# Altium footprint library EEG_PcbLib.PcbLib: 129 footprints (part 4 of 9)
Each footprint in its own frame and in the unit in brackets; x right, y up, seen from the top. Pads: shape width x height; smd on the part's side, far side on the other; paste and mask are expansions set on the pad; w line width, h text height; cw(c..) or ccw(c..) is an arc to the next point about the centre after c.
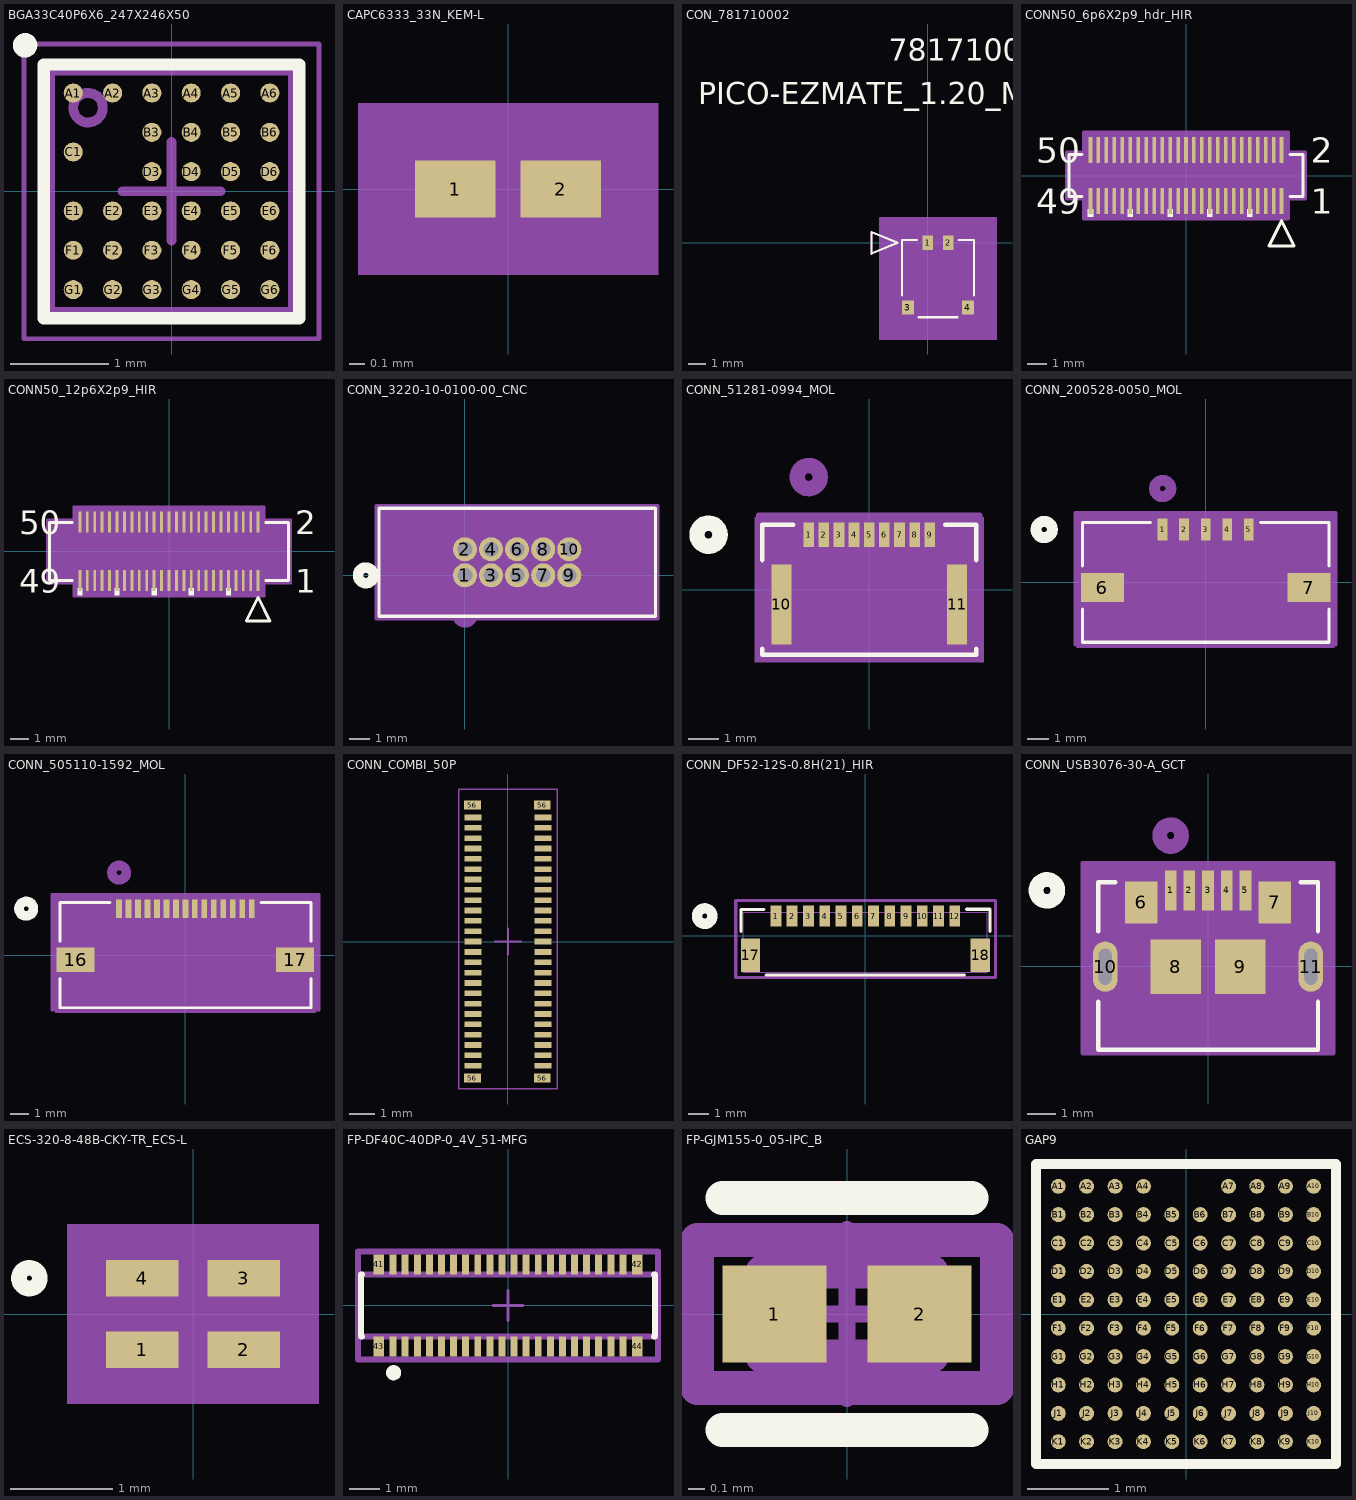
[diagram p3: the footprints below, top view; thin cyan lines are the x and y axes]

## BGA33C40P6X6_247X246X50 [mm] "BGA, 33-Leads, Body 2.47x2.46mmx0.50mm, Pitch 0.40mm"
height 0.5
pads (33):
  round 0.194 smd mask+0.05: A1(-1,1) A2(-0.6,1) A3(-0.2,1) A4(0.2,1) A5(0.6,1) A6(1,1) B3(-0.2,0.6) B4(0.2,0.6) B5(0.6,0.6) B6(1,0.6) C1(-1,0.4) D3(-0.2,0.2) D4(0.2,0.2) D5(0.6,0.2) D6(1,0.2) E1(-1,-0.2) E2(-0.6,-0.2) E3(-0.2,-0.2) E4(0.2,-0.2) E5(0.6,-0.2) E6(1,-0.2) F1(-1,-0.6) F2(-0.6,-0.6) F3(-0.2,-0.6) F4(0.2,-0.6) F5(0.6,-0.6) F6(1,-0.6) G1(-1,-1) G2(-0.6,-1) G3(-0.2,-1) G4(0.2,-1) G5(0.6,-1) G6(1,-1)
Top Overlay:
  circle w0.125: c-1.49,1.485 r0.062
  lines w0.125: -1.299,-1.291 -1.299,1.291 1.299,1.291 1.299,-1.291 -1.299,-1.291
Mechanical 7:
  circle w0.1: c-0.85,0.85 r0.15
  lines w0.1: -1.237,-1.228 1.237,-1.228 1.237,1.228 -1.237,1.228 -1.237,-1.228
  text ".Designator" at -0.4,-0.2 h0.38
Mechanical 15:
  lines w0.05: -1.5,-1.5 1.5,-1.5 1.5,1.5 -1.5,1.5 -1.5,-1.5
  lines w0.1: -0.5,0 0.5,0 ; 0,-0.5 0,0.5
3D body "BGA33C40P6X6_247X246X50.step": height 0.5, standoff 0, extent -1.235,-1.23 1.235,1.23

## CAPC6333_33N_KEM-L [mm]
pads (2):
  rect 0.535x0.381 smd paste+0 mask+0: 1(-0.352,0) 2(0.352,0)
Mechanical 5:
  region: 1.001,-0.571 -1.001,-0.571 -1.001,0.571 1.001,0.571
Mechanical 13:
  lines w0.025: -0.315,-0.165 -0.315,0.165 ; -0.315,-0.165 -0.115,-0.165 -0.115,0.165 -0.315,0.165 ; -0.315,-0.165 0.315,-0.165 ; -0.315,-0.165 -0.315,0.165 ; -0.315,0.165 0.315,0.165 ; 0.315,-0.165 0.115,-0.165 0.115,0.165 0.315,0.165 ; 0.315,-0.165 0.315,0.165 ; 0.315,-0.165 0.315,0.165
Mechanical 15:
  region: 0.823,-0.394 -0.823,-0.394 -0.823,0.394 0.823,0.394
  lines w0.152: -0.823,-0.394 -0.823,0.394 0.823,0.394 0.823,-0.394 -0.823,-0.394
3D body "CAPC6333_33N_KEM.step": height 0.33, standoff 0, extent -0.315,-0.165 0.315,0.165

## CON_781710002 [mm]
pads (4):
  rect 0.6x0.85 smd paste+0 mask+0.076: 1(0,0) 2(1.2,0)
  rect 0.7x0.8 smd paste+0 mask+0.076: 3(-1.15,-3.775) 4(2.35,-3.775)
Top Overlay:
  lines w0.127: -1.5,-3.055 -1.5,0.16 -0.62,0.16 ; -0.526,-4.34 1.726,-4.34 ; 1.82,0.16 2.7,0.16 2.7,-3.055 ; -3.278,-0.635 -3.278,0.635 -1.754,0 -3.278,-0.635
  text "781710002" at -2.258,10.61 h1.27
  text "PICO-EZMATE_1.20_MM_WTB_HDR_CONNECTOR_-2_CKT" at -13.37,8.07 h1.27
Mechanical 5:
  region: -1.881,0.541 3.081,0.541 3.081,-4.721 -1.881,-4.721
Mechanical 13:
  lines w0.127: -3.278,-0.635 -3.278,0.635 ; -3.278,-0.635 -1.754,0 ; -3.278,-0.635 -3.278,0.635 ; -3.278,-0.635 -1.754,0 ; -3.278,0.635 -1.754,0 ; -3.278,0.635 -1.754,0 ; -1.5,-4.34 2.7,-4.34 2.7,0.16 -1.5,0.16 -1.5,-4.34
  text "781710002" at -2.258,10.61 h1.27
  text "PICO-EZMATE_1.20_MM_WTB_HDR_CONNECTOR_-2_CKT" at -13.37,8.07 h1.27
Mechanical 15:
  region: 3.97,1.43 -2.77,1.43 -2.77,-5.61 3.97,-5.61
  lines w0.127: -2.77,-5.61 -2.77,1.43 3.97,1.43 3.97,-5.61 -2.77,-5.61
3D body: height 0.25, standoff 0, extent 0,0 0.254,0.254
3D body "78171-0002--3DModel-STEP-361473.STEP": height 1.46, standoff 0.01, extent -1.5,-4.15 2.7,0.38

## CONN50_6p6X2p9_hdr_HIR [mil]
pads (50):
  rect 7x51.56 smd paste+0 mask+0: 1(188.98,-50.5) 2(188.98,50.5) 3(173.23,-50.5) 4(173.23,50.5) 5(157.48,-50.5) 6(157.48,50.5) 7(141.73,-50.5) 8(141.73,50.5) 9(125.98,-50.5) 10(125.98,50.5) 11(110.24,-50.5) 12(110.24,50.5) 13(94.49,-50.5) 14(94.49,50.5) 15(78.74,-50.5) 16(78.74,50.5) 17(62.99,-50.5) 18(62.99,50.5) 19(47.24,-50.5) 20(47.24,50.5) 21(31.5,-50.5) 22(31.5,50.5) 23(15.75,-50.5) 24(15.75,50.5) 25(0,-50.5) 26(0,50.5) 27(-15.75,-50.5) 28(-15.75,50.5) 29(-31.5,-50.5) 30(-31.5,50.5) 31(-47.24,-50.5) 32(-47.24,50.5) 33(-62.99,-50.5) 34(-62.99,50.5) 35(-78.74,-50.5) 36(-78.74,50.5) 37(-94.49,-50.5) 38(-94.49,50.5) 39(-110.24,-50.5) 40(-110.24,50.5) 41(-125.98,-50.5) 42(-125.98,50.5) 43(-141.73,-50.5) 44(-141.73,50.5) 45(-157.48,-50.5) 46(-157.48,50.5) 47(-173.23,-50.5) 48(-173.23,50.5) 49(-188.98,-50.5) 50(-188.98,50.5)
Top Overlay:
  region: 130.98,-66.5 120.98,-66.5 120.98,-81.5 130.98,-81.5
  region: 52.24,-66.5 42.24,-66.5 42.24,-81.5 52.24,-81.5
  region: -26.5,-66.5 -36.5,-66.5 -36.5,-81.5 -26.5,-81.5
  region: -105.24,-66.5 -115.24,-66.5 -115.24,-81.5 -105.24,-81.5
  region: -183.98,-66.5 -193.98,-66.5 -193.98,-81.5 -183.98,-81.5
  lines w6: -205.58,-41.5 -231.77,-41.5 -231.77,41.5 -205.58,41.5 ; 205.58,-41.5 231.77,-41.5 231.77,41.5 205.58,41.5 ; 163.98,-139.38 188.98,-89.38 213.98,-139.38 163.98,-139.38
  text "2" at 246.77,25.5 h50
  text "1" at 246.77,-75.5 h50
  text "50" at -296.77,25.5 h50
  text "49" at -296.77,-75.5 h50
Mechanical 13:
  lines w1: -226.77,-36.5 226.77,-36.5 226.77,36.5 -226.77,36.5 -226.77,-36.5 ; 163.98,-139.38 188.98,-89.38 213.98,-139.38 163.98,-139.38
  text "2" at 246.77,25.5 h50
  text "1" at 246.77,-75.5 h50
  text "50" at -296.77,25.5 h50
  text "49" at -296.77,-75.5 h50
Mechanical 15:
  region: -202.48,-46.5 -236.77,-46.5 -236.77,46.5 -202.48,46.5 -202.48,86.28 202.48,86.28 202.48,46.5 236.77,46.5 236.77,-46.5 202.48,-46.5 202.48,-86.28 -202.48,-86.28
  region: 226.77,-36.5 -226.77,-36.5 -226.77,36.5 226.77,36.5
  lines w6: -236.77,-46.5 -236.77,46.5 -202.48,46.5 -202.48,86.28 202.48,86.28 202.48,46.5 236.77,46.5 236.77,-46.5 202.48,-46.5 202.48,-86.28 -202.48,-86.28 -202.48,-46.5 -236.77,-46.5
3D body "DF40C-50DP.stp": height 45.38, standoff 0.5, extent -226.77,-57.87 226.77,59.06

## CONN50_12p6X2p9_HIR [mil]
pads (50):
  rect 6x44.56 smd paste+0 mask+0: 1(188.98,-62) 2(188.98,62) 3(173.23,-62) 4(173.23,62) 5(157.48,-62) 6(157.48,62) 7(141.73,-62) 8(141.73,62) 9(125.98,-62) 10(125.98,62) 11(110.24,-62) 12(110.24,62) 13(94.49,-62) 14(94.49,62) 15(78.74,-62) 16(78.74,62) 17(62.99,-62) 18(62.99,62) 19(47.24,-62) 20(47.24,62) 21(31.5,-62) 22(31.5,62) 23(15.75,-62) 24(15.75,62) 25(0,-62) 26(0,62) 27(-15.75,-62) 28(-15.75,62) 29(-31.5,-62) 30(-31.5,62) 31(-47.24,-62) 32(-47.24,62) 33(-62.99,-62) 34(-62.99,62) 35(-78.74,-62) 36(-78.74,62) 37(-94.49,-62) 38(-94.49,62) 39(-110.24,-62) 40(-110.24,62) 41(-125.98,-62) 42(-125.98,62) 43(-141.73,-62) 44(-141.73,62) 45(-157.48,-62) 46(-157.48,62) 47(-173.23,-62) 48(-173.23,62) 49(-188.98,-62) 50(-188.98,62)
Top Overlay:
  region: -183.98,-77.5 -193.98,-77.5 -193.98,-92.5 -183.98,-92.5
  region: -105.24,-77.5 -115.24,-77.5 -115.24,-92.5 -105.24,-92.5
  region: -26.5,-77.5 -36.5,-77.5 -36.5,-92.5 -26.5,-92.5
  region: 52.24,-77.5 42.24,-77.5 42.24,-92.5 52.24,-92.5
  region: 130.98,-77.5 120.98,-77.5 120.98,-92.5 130.98,-92.5
  lines w6: -205.08,-61.5 -253,-61.5 -253,61.5 -205.08,61.5 ; 205.08,-61.5 253,-61.5 253,61.5 205.08,61.5 ; 163.98,-147.38 213.98,-147.38 188.98,-97.38 163.98,-147.38
  text "49" at -318,-87 h50
  text "50" at -318,37 h50
  text "1" at 268,-87 h50
  text "2" at 268,37 h50
Mechanical 13:
  lines w1: -248,-56.5 -248,56.5 248,56.5 248,-56.5 -248,-56.5 ; 163.98,-147.38 213.98,-147.38 188.98,-97.38 163.98,-147.38
  text "49" at -318,-87 h50
  text "50" at -318,37 h50
  text "1" at 268,-87 h50
  text "2" at 268,37 h50
Mechanical 15:
  region: 248,-56.5 -248,-56.5 -248,56.5 248,56.5
  region: -201.98,-66.5 -258,-66.5 -258,66.5 -201.98,66.5 -201.98,94.28 201.98,94.28 201.98,66.5 258,66.5 258,-66.5 201.98,-66.5 201.98,-94.28 -201.98,-94.28
  lines w6: -258,-66.5 -201.98,-66.5 -201.98,-94.28 201.98,-94.28 201.98,-66.5 258,-66.5 258,66.5 201.98,66.5 201.98,94.28 -201.98,94.28 -201.98,66.5 -258,66.5 -258,-66.5
3D body "DF40C-50DS.stp": height 57.59, standoff 0.5, extent -248.62,-66.54 247.44,66.54

## CONN_3220-10-0100-00_CNC [mil]
pads (10):
  round 46 / inner round 60 / far side round 46 hole 28 paste-99999 mask+0: 1(0,0) 2(0,50) 3(50,0) 4(50,50) 5(100,0) 6(100,50) 7(150,0) 8(150,50) 9(200,0) 10(200,50)
Top Overlay:
  circle w20: c-190,0 r15
  lines w6: -165,-78.5 -165,128.5 365,128.5 365,-78.5 -165,-78.5
Bottom Overlay:
  circle w20: c-190,0 r15
Mechanical 13:
  circle w20: c0,-75 r15
  lines w1: -160,-73.5 -160,123.5 360,123.5 360,-73.5 -160,-73.5
Mechanical 15:
  region: 370,133.5 -170,133.5 -170,-83.5 370,-83.5
  lines w6: -170,-83.5 370,-83.5 370,133.5 -170,133.5 -170,-83.5

## CONN_51281-0994_MOL [mil]
pads (11):
  rect 14x32 smd paste+0 mask+0: 1(-78.74,71.63) 2(-59.06,71.63) 3(-39.37,71.63) 4(-19.68,71.63) 5(0,71.63) 6(19.68,71.63) 7(39.37,71.63) 8(59.06,71.63) 9(78.74,71.63)
  rect 26x104 smd: 10(-114.17,-18.93) 11(114.17,-18.93)
Top Overlay:
  circle w20: c-209,71.63 r15
  lines w6: -139,-76.56 -139,-84.5 139,-84.5 139,-76.56 ; -139,38.71 -139,84.5 -98.84,84.5 ; 98.84,84.5 139,84.5 139,38.71
Bottom Overlay:
  circle w20: c-209,71.63 r15
Mechanical 5:
  region: -149,94.5 149,94.5 149,-94.5 -149,-94.5
Mechanical 13:
  circle w20: c-78.74,146.63 r15
  lines w1: -134,-79.5 -134,79.5 134,79.5 134,-79.5 -134,-79.5
Mechanical 15:
  region: 144,97.63 -144,97.63 -144,-89.5 144,-89.5
  lines w6: -144,-89.5 144,-89.5 144,97.63 -144,97.63 -144,-89.5
3D body "512810998.stp": height 46.06, standoff -1.18, extent -129.92,-74.8 129.92,84.64
3D body: height 10, standoff 0, extent 0,0 10,10

## CONN_200528-0050_MOL [mil]
pads (7):
  rect 18x41 smd paste+0 mask+0: 1(-78.74,96.63) 2(-39.37,96.63) 3(0,96.63) 4(39.37,96.63) 5(78.74,96.63)
  rect 79x53 smd: 6(-188.98,-9.67) 7(188.98,-9.67)
Top Overlay:
  circle w20: c-295.5,96.63 r15
  lines w6: -225.5,-49.27 -225.5,-109.5 225.5,-109.5 225.5,-49.27 ; -225.5,29.93 -225.5,109.5 -100.84,109.5 ; 100.84,109.5 225.5,109.5 225.5,29.93
Bottom Overlay:
  circle w20: c-295.5,96.63 r15
Mechanical 5:
  region: -235.5,119.5 235.5,119.5 235.5,-119.5 -235.5,-119.5
Mechanical 13:
  circle w20: c-78.74,171.63 r15
  lines w1: -220.5,-104.5 220.5,-104.5 220.5,104.5 -220.5,104.5 -220.5,-104.5
Mechanical 15:
  region: 238.48,127.13 -238.48,127.13 -238.48,-114.5 238.48,-114.5
  lines w6: -238.48,-114.5 -238.48,127.13 238.48,127.13 238.48,-114.5 -238.48,-114.5
3D body: height 10, standoff 0, extent 0,0 10,10
3D body "2005280050.stp": height 77.67, standoff 0.5, extent -216.54,-106.3 216.54,102.36

## CONN_505110-1592_MOL [mil]
pads (17):
  rect 12x39 smd paste+0 mask+0: 1(-137.8,96.63) 2(-118.11,96.63) 3(-98.43,96.63) 4(-78.74,96.63) 5(-59.06,96.63) 6(-39.37,96.63) 7(-19.68,96.63) 8(0,96.63) 9(19.68,96.63) 10(39.37,96.63) 11(59.06,96.63) 12(78.74,96.63) 13(98.43,96.63) 14(118.11,96.63) 15(137.8,96.63)
  rect 79x51 smd: 16(-228.35,-9.67) 17(228.35,-9.67)
Top Overlay:
  circle w20: c-331,96.63 r15
  lines w6: -261,-48.27 -261,-109.5 261,-109.5 261,-48.27 ; -261,28.93 -261,109.5 -156.9,109.5 ; 156.9,109.5 261,109.5 261,28.93
Bottom Overlay:
  circle w20: c-331,96.63 r15
Mechanical 5:
  region: -271,119.5 271,119.5 271,-119.5 -271,-119.5
Mechanical 13:
  circle w20: c-137.8,171.63 r15
  lines w1: -256,-104.5 -256,104.5 256,104.5 256,-104.5 -256,-104.5
Mechanical 15:
  region: 277.85,126.13 -277.85,126.13 -277.85,-114.5 277.85,-114.5
  lines w6: -277.85,-114.5 277.85,-114.5 277.85,126.13 -277.85,126.13 -277.85,-114.5
3D body "5051101592.stp": height 75.31, standoff 0.5, extent -255.91,-106.3 255.91,102.36
3D body: height 10, standoff 0, extent 0,0 10,10

## CONN_COMBI_50P [mm] "50Pin 0.4mm pitch connector footprint that accepts (male) connectors intended for different stacking heights:  Hirose - DF40C-50DP-0.4V(51) for 1.5mm - 3mm stacking height , JAE - WP7B-P050VA1-R8000 - for 0.7mm stacking height"
pads (54):
  rect 0.66x0.22 smd: 1(1.355,4.8) 2(1.355,4.4) 3(1.355,4) 4(1.355,3.6) 5(1.355,3.2) 6(1.355,2.8) 7(1.355,2.4) 8(1.355,2) 9(1.355,1.6) 10(1.355,1.2) 11(1.355,0.8) 12(1.355,0.4) 13(1.355,0) 14(1.355,-0.4) 15(1.355,-0.8) 16(1.355,-1.2) 17(1.355,-1.6) 18(1.355,-2) 19(1.355,-2.4) 20(1.355,-2.8) 21(1.355,-3.2) 22(1.355,-3.6) 23(1.355,-4) 24(1.355,-4.4) 25(1.355,-4.8) 26(-1.355,-4.8) 27(-1.355,-4.4) 28(-1.355,-4) 29(-1.355,-3.6) 30(-1.355,-3.2) 31(-1.355,-2.8) 32(-1.355,-2.4) 33(-1.355,-2) 34(-1.355,-1.6) 35(-1.355,-1.2) 36(-1.355,-0.8) 37(-1.355,-0.4) 38(-1.355,0) 39(-1.355,0.4) 40(-1.355,0.8) 41(-1.355,1.2) 42(-1.355,1.6) 43(-1.355,2) 44(-1.355,2.4) 45(-1.355,2.8) 46(-1.355,3.2) 47(-1.355,3.6) 48(-1.355,4) 49(-1.355,4.4) 50(-1.355,4.8)
  rect 0.65x0.35 smd: 56(-1.375,-5.275) 56(-1.375,5.275) 56(1.325,-5.275) 56(1.325,5.275)
Top Assembly:
  lines w0.05: -1.9,-5.7 1.9,-5.7 1.9,5.9 -1.9,5.9 -1.9,-5.7
Top Courtyard:
  lines w0.05: -1.9,-5.7 1.9,-5.7 1.9,5.9 -1.9,5.9 -1.9,-5.7
Top Component Center:
  lines w0.08: -0.5,0 0.5,0 ; 0,-0.5 0,0.5
3D body "DF40C-50DP.stp": height 1.14, standoff 0, extent -1.492,-5.737 1.478,5.783

## CONN_DF52-12S-0.8H(21)_HIR [mm]
pads (14):
  rect 0.533x1.041 smd paste+0 mask+0: 1(-4.4,0.96) 2(-3.6,0.96) 3(-2.8,0.96) 4(-2,0.96) 5(-1.2,0.96) 6(-0.4,0.96) 7(0.4,0.96) 8(1.2,0.96) 9(2,0.96) 10(2.8,0.96) 11(3.6,0.96) 12(4.4,0.96)
  rect 0.94x1.651 smd: 17(-5.65,-0.96) 18(5.65,-0.96)
Top Overlay:
  circle w0.508: c-7.9,0.96 r0.381
  lines w0.152: -6.122,0.198 -6.122,1.287 -4.999,1.287 ; -4.885,-1.939 4.885,-1.939 ; 4.978,1.3 6.122,1.3 6.122,0.198
Bottom Overlay:
  circle w0.508: c-7.9,0.96 r0.381
Mechanical 13:
  lines w0.025: -5.995,-1.812 -5.995,1.16 6,1.16 6,-1.812 -5.995,-1.812
Mechanical 15:
  lines w0.152: -6.374,-2.066 6.4,-2.066 6.4,1.735 -6.374,1.735 -6.374,-2.066
3D body "DF52-12S-0.8H-21---3DModel-STEP-1.STEP": height 1.76, standoff 0.01, extent -5.9,-1.7 5.9,1.07

## CONN_USB3076-30-A_GCT [mm]
pads (11):
  rect 0.406x1.397 smd paste+0 mask+0: 1(-1.3,2.631) 2(-0.65,2.631) 3(0,2.631) 4(0.65,2.631) 5(1.3,2.631)
  rect 1.143x1.448 smd paste-0.724 mask-0.724: 6(-2.32,2.211) 7(2.32,2.211)
  rect 1.75x1.9 smd paste-0.95 mask-0.953: 8(-1.125,-0.019) 9(1.125,-0.019)
  oval 0.85x1.75 hole 0.45 slot 1.25 at 90 deg mask+0.102: 10(-3.575,-0.019) 11(3.575,-0.019)
Top Overlay:
  circle w0.508: c-5.601,2.631 r0.381
  lines w0.152: -3.823,-1.242 -3.823,-2.908 3.823,-2.908 3.823,-1.242 ; -3.823,1.204 -3.823,2.908 -3.224,2.908 ; 3.224,2.908 3.823,2.908 3.823,1.204
Bottom Overlay:
  circle w0.508: c-5.601,2.631 r0.381
Mechanical 13:
  circle w0.508: c-1.3,4.536 r0.381
  lines w0.025: -3.696,-2.781 -3.696,2.781 3.696,2.781 3.696,-2.781 -3.696,-2.781
Mechanical 15:
  region: 4.35,3.584 -4.35,3.584 -4.35,-3.035 4.35,-3.035
  lines w0.152: -4.35,-3.035 4.35,-3.035 4.35,3.584 -4.35,3.584 -4.35,-3.035
3D body "USB3076-30-A--3DModel-STEP-56544.STEP": height 2.67, standoff -0.99, extent -3.7,-2.775 3.7,2.775

## ECS-320-8-48B-CKY-TR_ECS-L [mm]
pads (4):
  rect 0.708x0.356 smd paste+0 mask+0: 1(-0.496,-0.35) 2(0.496,-0.35) 3(0.496,0.35) 4(-0.496,0.35)
Top Overlay:
  circle w0.152: c-1.601,0.35 r0.102
Mechanical 5:
  region: 1.231,-0.876 -1.231,-0.876 -1.231,0.876 1.231,0.876
Mechanical 13:
  circle w0: c-0.142,0.35 r0.076
  lines w0: -0.305,0.495 ccw(c0,0.495) 0.305,0.495
  lines w0.025: -0.597,-0.495 -0.597,0.495 0.597,0.495 0.597,-0.495 -0.597,-0.495
Mechanical 15:
  region: -0.699,-0.63 -0.952,-0.63 -0.952,0.63 -0.699,0.63 -0.699,0.597 0.699,0.597 0.699,0.63 0.952,0.63 0.952,-0.63 0.699,-0.63 0.699,-0.597 -0.699,-0.597
  lines w0.152: -0.952,-0.63 -0.699,-0.63 -0.699,-0.597 0.699,-0.597 0.699,-0.63 0.952,-0.63 0.952,0.63 0.699,0.63 0.699,0.597 -0.699,0.597 -0.699,0.63 -0.952,0.63 -0.952,-0.63
3D body "ECS-320-8-48B-CKY-TR_ECS.step": height 0.31, standoff 0, extent -0.65,-0.553 0.65,0.553

## FP-DF40C-40DP-0_4V_51-MFG [mm]
pads (44):
  rect 0.23x0.66 smd paste-1000 mask+0: 1(-3.8,-1.355) 2(-3.8,1.355) 3(-3.4,-1.355) 4(-3.4,1.355) 5(-3,-1.355) 6(-3,1.355) 7(-2.6,-1.355) 8(-2.6,1.355) 9(-2.2,-1.355) 10(-2.2,1.355) 11(-1.8,-1.355) 12(-1.8,1.355) 13(-1.4,-1.355) 14(-1.4,1.355) 15(-1,-1.355) 16(-1,1.355) 17(-0.6,-1.355) 18(-0.6,1.355) 19(-0.2,-1.355) 20(-0.2,1.355) 21(0.2,-1.355) 22(0.2,1.355) 23(0.6,-1.355) 24(0.6,1.355) 25(1,-1.355) 26(1,1.355) 27(1.4,-1.355) 28(1.4,1.355) 29(1.8,-1.355) 30(1.8,1.355) 31(2.2,-1.355) 32(2.2,1.355) 33(2.6,-1.355) 34(2.6,1.355) 35(3,-1.355) 36(3,1.355) 37(3.4,-1.355) 38(3.4,1.355) 39(3.8,-1.355) 40(3.8,1.355)
  rect 0.35x0.66 smd paste+0 mask+0: 41(-4.275,1.355) 42(4.275,1.355) 43(-4.275,-1.355) 44(4.275,-1.355)
Top Overlay:
  circle w0.25: c-3.785,-2.225 r0.125
  lines w0.2: -4.825,-1.025 -4.86,-1.025 -4.86,1.025 -4.825,1.025 ; 4.825,-1.025 4.86,-1.025 4.86,1.025 4.825,1.025
Top Paste:
  rectangle: -3.892,1.025 -3.708,1.685
  rectangle: -3.492,1.025 -3.308,1.685
  rectangle: -3.092,1.025 -2.908,1.685
  rectangle: -2.692,1.025 -2.508,1.685
  rectangle: -2.292,1.025 -2.108,1.685
  rectangle: -1.892,1.025 -1.708,1.685
  rectangle: -1.492,1.025 -1.308,1.685
  rectangle: -1.092,1.025 -0.908,1.685
  rectangle: -0.692,1.025 -0.508,1.685
  rectangle: -0.292,1.025 -0.108,1.685
  rectangle: 0.108,1.025 0.292,1.685
  rectangle: 0.508,1.025 0.692,1.685
  rectangle: 0.908,1.025 1.092,1.685
  rectangle: 1.308,1.025 1.492,1.685
  rectangle: 1.708,1.025 1.892,1.685
  rectangle: 2.108,1.025 2.292,1.685
  rectangle: 2.508,1.025 2.692,1.685
  rectangle: 2.908,1.025 3.092,1.685
  rectangle: 3.308,1.025 3.492,1.685
  rectangle: 3.708,1.025 3.892,1.685
  rectangle: -3.892,-1.685 -3.708,-1.025
  rectangle: -3.492,-1.685 -3.308,-1.025
  rectangle: -3.092,-1.685 -2.908,-1.025
  rectangle: -2.692,-1.685 -2.508,-1.025
  rectangle: -2.292,-1.685 -2.108,-1.025
  rectangle: -1.892,-1.685 -1.708,-1.025
  rectangle: -1.492,-1.685 -1.308,-1.025
  rectangle: -1.092,-1.685 -0.908,-1.025
  rectangle: -0.692,-1.685 -0.508,-1.025
  rectangle: -0.292,-1.685 -0.108,-1.025
  rectangle: 0.108,-1.685 0.292,-1.025
  rectangle: 0.508,-1.685 0.692,-1.025
  rectangle: 0.908,-1.685 1.092,-1.025
  rectangle: 1.308,-1.685 1.492,-1.025
  rectangle: 1.708,-1.685 1.892,-1.025
  rectangle: 2.108,-1.685 2.292,-1.025
  rectangle: 2.508,-1.685 2.692,-1.025
  rectangle: 2.908,-1.685 3.092,-1.025
  rectangle: 3.308,-1.685 3.492,-1.025
  rectangle: 3.708,-1.685 3.892,-1.025
Top 3D Body:
  lines w0.2: -4.86,-1.025 4.86,-1.025 4.86,1.025 -4.86,1.025 -4.86,-1.025
Top Assembly:
  lines w0.2: -4.96,-1.785 4.96,-1.785 4.96,1.785 -4.96,1.785 -4.96,-1.785
  text ".Designator" at 0,0.187 h1
Top Courtyard:
  lines w0.2: -4.96,-1.785 4.96,-1.785 4.96,1.785 -4.96,1.785 -4.96,-1.785
Top Component Center:
  lines w0.1: -0.5,0 0.5,0 ; 0,-0.5 0,0.5
3D body "Conn_Hirose_DF40C-40DP-0_4V_51_eec.STEP": height 0.25, standoff 0, extent -4.96,-1.785 4.96,1.785

## FP-GJM155-0_05-IPC_B [mm]
pads (2):
  rect 0.615x0.572 smd paste+0 mask+0: 1(-0.429,0) 2(0.429,0)
Top Overlay:
  lines w0.2: -0.736,-0.686 0.736,-0.686 ; -0.736,0.686 0.736,0.686
Top 3D Body:
  lines w0.2: -0.5,-0.25 -0.5,0.25 0.5,0.25 0.5,-0.25 -0.5,-0.25
Top Assembly:
  lines w0.2: -0.886,-0.436 -0.886,0.436 0.886,0.436 0.886,-0.436 -0.886,-0.436
  text ".Designator" at 0,0.187 h1
Top Courtyard:
  lines w0.2: -0.886,-0.436 -0.886,0.436 0.886,0.436 0.886,-0.436 -0.886,-0.436
Top Component Center:
  lines w0.1: -0.5,0 0.5,0 ; 0,-0.5 0,0.5
3D body "Cap_Murata_GJM1551C1H7R0DB01D_eec.STEP": height 0.25, standoff 0, extent -0.886,-0.436 0.886,0.436

## GAP9 [mm]
pads (98):
  round 0.185 smd paste-0.005 mask+0: A1(-1.575,1.575) A2(-1.225,1.575) A3(-0.875,1.575) A4(-0.525,1.575) A7(0.525,1.575) A8(0.875,1.575) A9(1.225,1.575) A10(1.575,1.575) B1(-1.575,1.225) B2(-1.225,1.225) B3(-0.875,1.225) B4(-0.525,1.225) B5(-0.175,1.225) B6(0.175,1.225) B7(0.525,1.225) B8(0.875,1.225) B9(1.225,1.225) B10(1.575,1.225) C1(-1.575,0.875) C2(-1.225,0.875) C3(-0.875,0.875) C4(-0.525,0.875) C5(-0.175,0.875) C6(0.175,0.875) C7(0.525,0.875) C8(0.875,0.875) C9(1.225,0.875) C10(1.575,0.875) D1(-1.575,0.525) D2(-1.225,0.525) D3(-0.875,0.525) D4(-0.525,0.525) D5(-0.175,0.525) D6(0.175,0.525) D7(0.525,0.525) D8(0.875,0.525) D9(1.225,0.525) D10(1.575,0.525) E1(-1.575,0.175) E2(-1.225,0.175) E3(-0.875,0.175) E4(-0.525,0.175) E5(-0.175,0.175) E6(0.175,0.175) E7(0.525,0.175) E8(0.875,0.175) E9(1.225,0.175) E10(1.575,0.175) F1(-1.575,-0.175) F2(-1.225,-0.175) F3(-0.875,-0.175) F4(-0.525,-0.175) F5(-0.175,-0.175) F6(0.175,-0.175) F7(0.525,-0.175) F8(0.875,-0.175) F9(1.225,-0.175) F10(1.575,-0.175) G1(-1.575,-0.525) G2(-1.225,-0.525) G3(-0.875,-0.525) G4(-0.525,-0.525) G5(-0.175,-0.525) G6(0.175,-0.525) G7(0.525,-0.525) G8(0.875,-0.525) G9(1.225,-0.525) G10(1.575,-0.525) H1(-1.575,-0.875) H2(-1.225,-0.875) H3(-0.875,-0.875) H4(-0.525,-0.875) H5(-0.175,-0.875) H6(0.175,-0.875) H7(0.525,-0.875) H8(0.875,-0.875) H9(1.225,-0.875) H10(1.575,-0.875) J1(-1.575,-1.225) J2(-1.225,-1.225) J3(-0.875,-1.225) J4(-0.525,-1.225) J5(-0.175,-1.225) J6(0.175,-1.225) J7(0.525,-1.225) J8(0.875,-1.225) J9(1.225,-1.225) J10(1.575,-1.225) K1(-1.575,-1.575) K2(-1.225,-1.575) K3(-0.875,-1.575) K4(-0.525,-1.575) K5(-0.175,-1.575) K6(0.175,-1.575) K7(0.525,-1.575) K8(0.875,-1.575) K9(1.225,-1.575) K10(1.575,-1.575)
Top Overlay:
  lines w0.127: -1.85,-1.85 -1.85,1.85 1.85,1.85 1.85,-1.85 -1.85,-1.85
3D body: height 0.52, standoff 0, extent -1.85,-1.85 1.85,1.85